# Altium schematic symbol library SCH - COMPARATOR - TI TPS3700DDCR.SCHLIB: 1 symbol
Pins are listed as number, name and electrical type; pins without a type are passive.

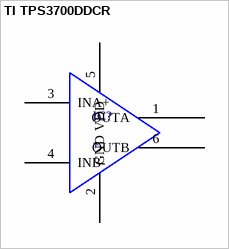
[diagram p0: symbol TI TPS3700DDCR]

## TI TPS3700DDCR
designator IC?
pins: 1 OUTA, 2 GND, 3 INA+, 4 INB-, 5 VDD, 6 OUTB